# EAGLE library part AP7179DSKZ20-13 (library AP7179DSKZ20-13)
LDO Voltage Regulators LDO CMOS HiCurr W-QFN3535-20 T&R 5K Source: Datasheet <https://www.diodes.com//assets/Datasheets/AP7179D.pdf>
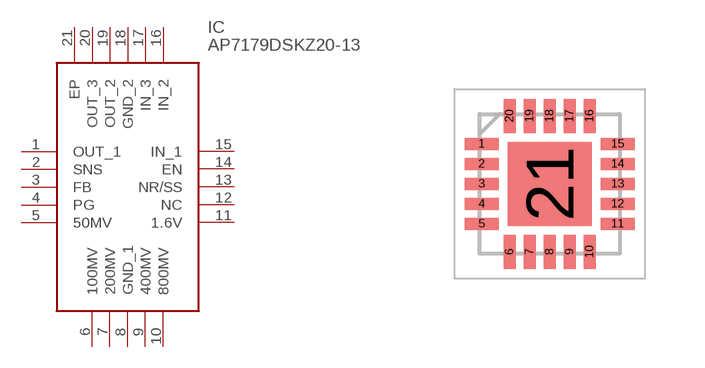
[diagram p0: symbol with the pads of QFN50P350X350X80-21N; footprint QFN50P350X350X80-21N]

Designator prefix IC

## AP7179DSKZ20-13 (Description: LDO Voltage Regulators LDO CMOS HiCurr W-QFN3535-20 T&R 5K; Height: 0.8mm; Manufacturer_Name: Diodes Incorporated; Manufacturer_Part_Number: AP7179DSKZ20-13)  [QFN50P350X350X80-21N]
1  OUT_1
2  SNS
3  FB
4  PG
5  50MV
6  100MV
7  200MV
8  GND_1
9  400MV
10  800MV
11  1.6V
12  NC  nc
13  NR/SS
14  EN
15  IN_1
16  IN_2
17  IN_3
18  GND_2
19  OUT_2
20  OUT_3
21  EP

## Footprint QFN50P350X350X80-21N (pad centres in mm)
W-QFN3535-20 (Type A1)
smd 0.85 x 0.3: 1 -1.7,1; 2 -1.7,0.5; 3 -1.7,0; 4 -1.7,-0.5; 5 -1.7,-1; 11 1.7,-1; 12 1.7,-0.5; 13 1.7,0; 14 1.7,0.5; 15 1.7,1
smd 0.3 x 0.85: 6 -1,-1.7; 7 -0.5,-1.7; 8 0,-1.7; 9 0.5,-1.7; 10 1,-1.7; 16 1,1.7; 17 0.5,1.7; 18 0,1.7; 19 -0.5,1.7; 20 -1,1.7
smd 2.1 x 2.1: 21 0,0